# Altium footprint library WR-TBL_Rising Cage Clamp_10.16mm.PcbLib: 81 footprints (part 3 of 6)
Each footprint in its own frame and in the unit in brackets; x right, y up, seen from the top. Pads: shape width x height; smd on the part's side, far side on the other; paste and mask are expansions set on the pad; w line width, h text height; cw(c..) or ccw(c..) is an arc to the next point about the centre after c.
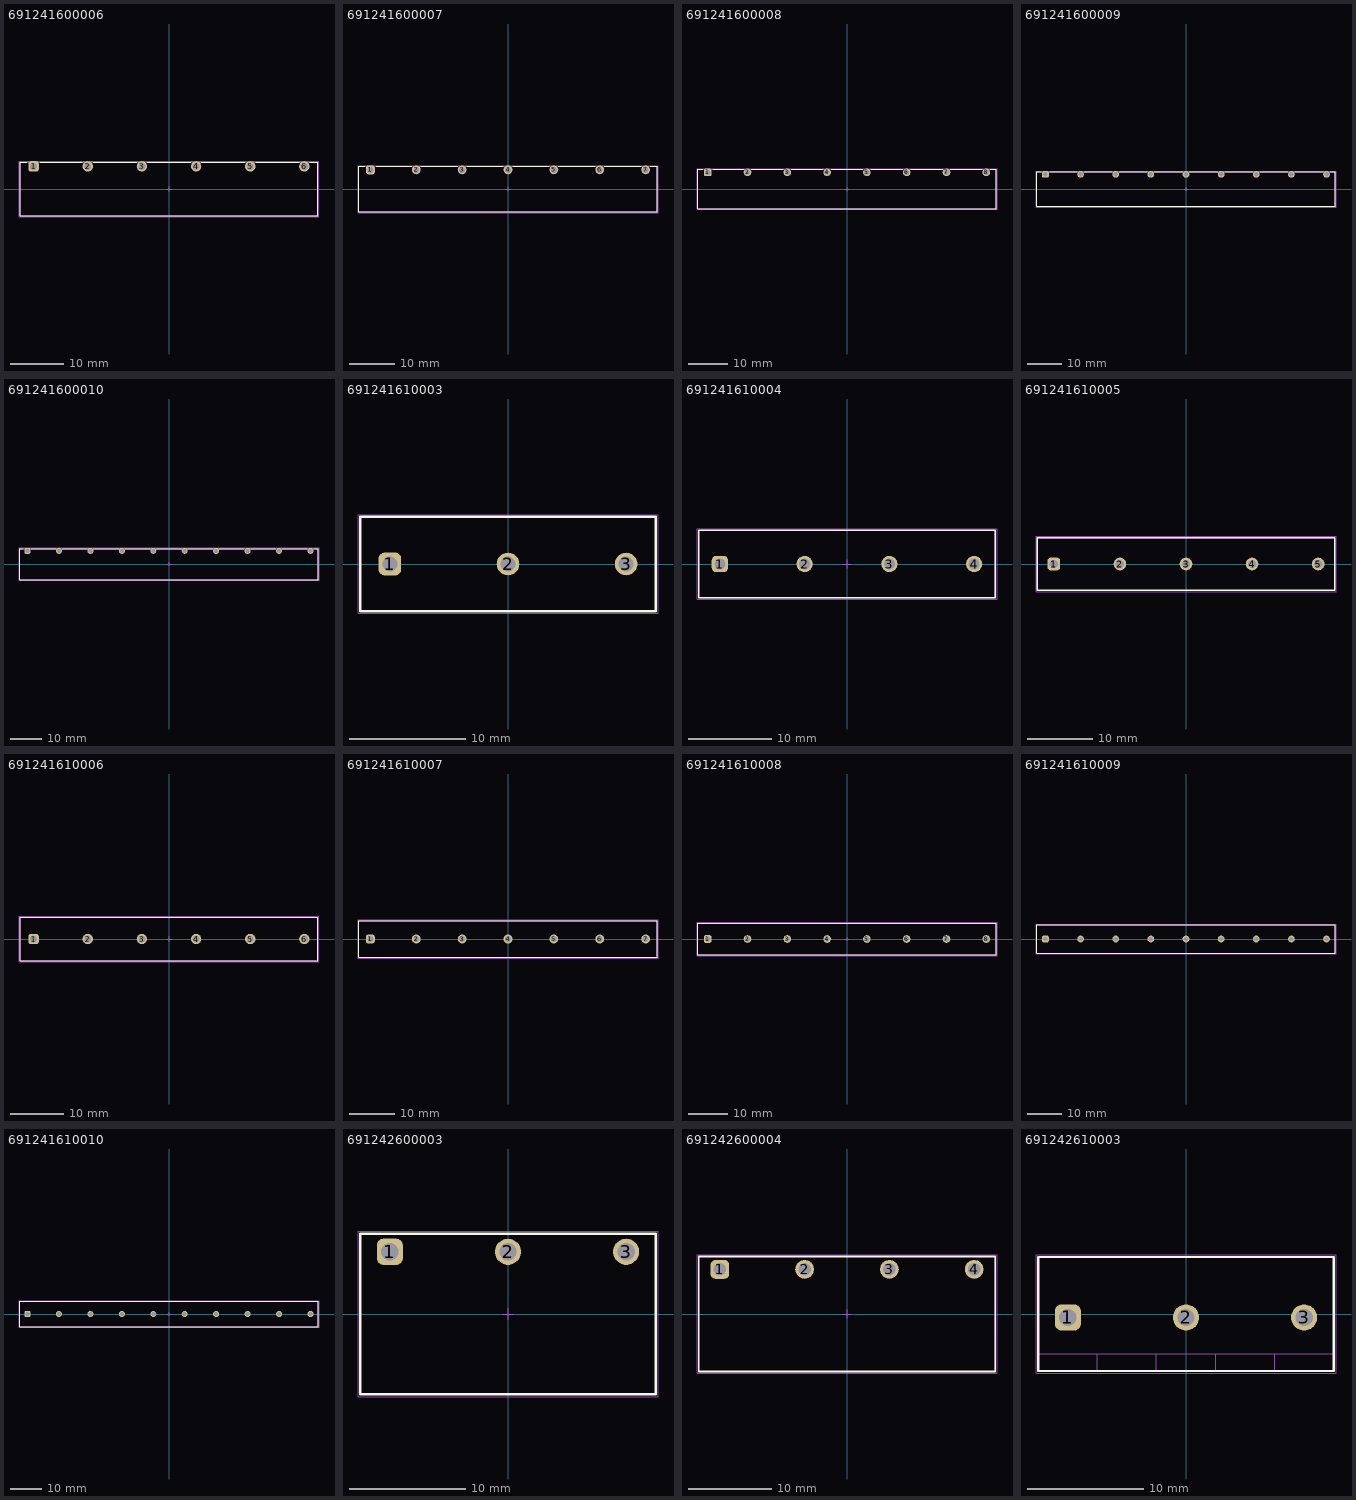
[diagram p2: the footprints below, top view; thin cyan lines are the x and y axes]

## 691241600006 [mm] "Vertical Cable Entry with Rising Cage Clamp, pitch 10.16mm, 06p"
height 8.1
pads (6):
  rrect50% 1.95x1.95 hole 1.3: 1(-25.4,4.25)
  round 1.95 hole 1.3: 2(-15.24,4.25) 3(-5.08,4.25) 4(5.08,4.25) 5(15.24,4.25) 6(25.4,4.25)
Top Overlay:
  lines w0.2: -26.69,5 -27.94,5 -27.94,-5 27.94,-5 27.94,5 26.44,5 ; -24.14,5 -16.24,5 ; -14.24,5 -6.09,5 ; -4.08,5 4.07,5 ; 6.08,5 14.23,5 ; 16.24,5 24.39,5
Top Assembly:
  lines w0.1: -27.94,-5 -27.94,5 27.94,5 27.94,-5 -27.94,-5
Top Designator:
  text ".Designator" at -3.647,-0.357 h1
Top 3D Body:
  lines w0.1: -27.94,-5 27.94,-5 27.94,5 -27.94,5 -27.94,-5
Top Courtyard:
  lines w0.05: -28.14,-5.2 -28.14,5.2 28.14,5.2 28.14,-5.2 -28.14,-5.2
Top Component Center:
  lines w0.1: -0.5,0 0.5,0 ; 0,-0.5 0,0.5
3D body "691241600006.stp": height 8.2, standoff -3.4, extent -27.94,-5 27.94,5

## 691241600007 [mm] "Vertical Cable Entry with Rising Cage Clamp, pitch 10.16mm, 07p"
height 8.1
pads (7):
  rrect50% 1.95x1.95 hole 1.3: 1(-30.48,4.25)
  round 1.95 hole 1.3: 2(-20.32,4.25) 3(-10.16,4.25) 4(0,4.25) 5(10.16,4.25) 6(20.32,4.25) 7(30.48,4.25)
Top Overlay:
  lines w0.2: -31.77,5 -33.02,5 -33.02,-5 33.02,-5 33.02,5 31.52,5 ; -29.22,5 -21.32,5 ; -19.32,5 -11.17,5 ; -9.16,5 -1.01,5 ; 1,5 9.15,5 ; 11.16,5 19.31,5 ; 21.32,5 29.47,5
Top Assembly:
  lines w0.1: -33.02,-5 -33.02,5 33.02,5 33.02,-5 -33.02,-5
Top Designator:
  text ".Designator" at -3.647,-0.357 h1
Top 3D Body:
  lines w0.1: -33.02,-5 33.02,-5 33.02,5 -33.02,5 -33.02,-5
Top Courtyard:
  lines w0.05: -33.22,-5.2 -33.22,5.2 33.22,5.2 33.22,-5.2 -33.22,-5.2
Top Component Center:
  lines w0.1: -0.5,0 0.5,0 ; 0,-0.5 0,0.5
3D body "691241600007.stp": height 8.2, standoff -3.4, extent -33.02,-5 33.02,5

## 691241600008 [mm] "Vertical Cable Entry with Rising Cage Clamp, pitch 10.16mm, 08p"
height 8.1
pads (8):
  rrect50% 1.95x1.95 hole 1.3: 1(-35.56,4.25)
  round 1.95 hole 1.3: 2(-25.4,4.25) 3(-15.24,4.25) 4(-5.08,4.25) 5(5.08,4.25) 6(15.24,4.25) 7(25.4,4.25) 8(35.56,4.25)
Top Overlay:
  lines w0.2: -36.85,5 -38.1,5 -38.1,-5 38.1,-5 38.1,5 36.6,5 ; -34.3,5 -26.4,5 ; -24.4,5 -16.25,5 ; -14.24,5 -6.09,5 ; -4.08,5 4.07,5 ; 6.08,5 14.23,5 ; 16.24,5 24.39,5 ; 26.4,5 34.55,5
Top Assembly:
  lines w0.1: -38.1,-5 -38.1,5 38.1,5 38.1,-5 -38.1,-5
Top Designator:
  text ".Designator" at -3.647,-0.357 h1
Top 3D Body:
  lines w0.1: -38.1,-5 38.1,-5 38.1,5 -38.1,5 -38.1,-5
Top Courtyard:
  lines w0.05: -38.3,-5.2 -38.3,5.2 38.3,5.2 38.3,-5.2 -38.3,-5.2
Top Component Center:
  lines w0.1: -0.5,0 0.5,0 ; 0,-0.5 0,0.5
3D body "691241600008.stp": height 8.2, standoff -3.4, extent -38.1,-5 38.1,5

## 691241600009 [mm] "Vertical Cable Entry with Rising Cage Clamp, pitch 10.16mm, 09p"
height 8.1
pads (9):
  rrect50% 1.95x1.95 hole 1.3: 1(-40.64,4.25)
  round 1.95 hole 1.3: 2(-30.48,4.25) 3(-20.32,4.25) 4(-10.16,4.25) 5(0,4.25) 6(10.16,4.25) 7(20.32,4.25) 8(30.48,4.25) 9(40.64,4.25)
Top Overlay:
  lines w0.2: -41.93,5 -43.18,5 -43.18,-5 43.18,-5 43.18,5 41.68,5 ; -39.38,5 -31.48,5 ; -29.48,5 -21.33,5 ; -19.32,5 -11.17,5 ; -9.16,5 -1.01,5 ; 1,5 9.15,5 ; 11.16,5 19.31,5 ; 21.32,5 29.47,5 ; 31.48,5 39.63,5
Top Assembly:
  lines w0.1: -43.18,-5 -43.18,5 43.18,5 43.18,-5 -43.18,-5
Top Designator:
  text ".Designator" at -3.647,-0.357 h1
Top 3D Body:
  lines w0.1: -43.18,-5 43.18,-5 43.18,5 -43.18,5 -43.18,-5
Top Courtyard:
  lines w0.05: -43.38,-5.2 -43.38,5.2 43.38,5.2 43.38,-5.2 -43.38,-5.2
Top Component Center:
  lines w0.1: -0.5,0 0.5,0 ; 0,-0.5 0,0.5
3D body "691241600009.stp": height 8.2, standoff -3.4, extent -43.18,-5 43.18,5

## 691241600010 [mm] "Vertical Cable Entry with Rising Cage Clamp, pitch 10.16mm, 10p"
height 8.1
pads (10):
  rrect50% 1.95x1.95 hole 1.3: 1(-45.72,4.25)
  round 1.95 hole 1.3: 2(-35.56,4.25) 3(-25.4,4.25) 4(-15.24,4.25) 5(-5.08,4.25) 6(5.08,4.25) 7(15.24,4.25) 8(25.4,4.25) 9(35.56,4.25) 10(45.72,4.25)
Top Overlay:
  lines w0.2: -47.01,5 -48.26,5 -48.26,-5 48.26,-5 48.26,5 46.76,5 ; -44.46,5 -36.56,5 ; -34.56,5 -26.41,5 ; -24.4,5 -16.25,5 ; -14.24,5 -6.09,5 ; -4.08,5 4.07,5 ; 6.08,5 14.23,5 ; 16.24,5 24.39,5 ; 26.4,5 34.55,5 ; 36.56,5 44.71,5
Top Assembly:
  lines w0.1: -48.26,-5 48.26,-5 48.26,5 -48.26,5 -48.26,-5
Top Designator:
  text ".Designator" at -3.647,-0.357 h1
Top 3D Body:
  lines w0.1: -48.26,-5 -48.26,5 48.26,5 48.26,-5 -48.26,-5
Top Courtyard:
  lines w0.05: -48.46,-5.2 48.46,-5.2 48.46,5.2 -48.46,5.2 -48.46,-5.2
Top Component Center:
  lines w0.1: -0.5,0 0.5,0 ; 0,-0.5 0,0.5
3D body "691241600010.stp": height 8.2, standoff -3.4, extent -48.26,-5 48.26,5

## 691241610003 [mm] "10.16mm Horizontal Cable Entry with Rising Cage Clamp, 03p"
height 10
pads (3):
  rrect50% 1.95x1.95 hole 1.3: 1(-10.16,0)
  round 1.95 hole 1.3: 2(0,0) 3(10.16,0)
Top Overlay:
  lines w0.2: -12.7,-4.05 -12.7,4.05 12.7,4.05 12.7,-4.05 -12.7,-4.05
Top Assembly:
  lines w0.1: -12.7,-4.05 12.7,-4.05 12.7,4.05 -12.7,4.05 -12.7,-4.05
Top Designator:
  text ".Designator" at -3.647,-0.357 h1
Top 3D Body:
  lines w0.1: -12.7,-4.05 -12.7,4.05 12.7,4.05 12.7,-4.05 -12.7,-4.05
Top Courtyard:
  lines w0.05: -12.9,-4.25 12.9,-4.25 12.9,4.25 -12.9,4.25 -12.9,-4.25
Top Component Center:
  lines w0.1: -0.5,0 0.5,0 ; 0,-0.5 0,0.5
3D body "691241610003.stp": height 10.1, standoff -3.4, extent -12.7,-4.05 12.7,4.05

## 691241610004 [mm] "10.16mm Horizontal Cable Entry with Rising Cage Clamp, 04p"
height 10
pads (4):
  rrect50% 1.95x1.95 hole 1.3: 1(-15.24,0)
  round 1.95 hole 1.3: 2(-5.08,0) 3(5.08,0) 4(15.24,0)
Top Overlay:
  lines w0.2: -17.78,-4.05 -17.78,4.05 17.78,4.05 17.78,-4.05 -17.78,-4.05
Top Assembly:
  lines w0.1: -17.78,-4.05 17.78,-4.05 17.78,4.05 -17.78,4.05 -17.78,-4.05
Top Designator:
  text ".Designator" at -3.647,-0.357 h1
Top 3D Body:
  lines w0.1: -17.78,-4.05 -17.78,4.05 17.78,4.05 17.78,-4.05 -17.78,-4.05
Top Courtyard:
  lines w0.05: -17.98,-4.25 17.98,-4.25 17.98,4.25 -17.98,4.25 -17.98,-4.25
Top Component Center:
  lines w0.1: -0.5,0 0.5,0 ; 0,-0.5 0,0.5
3D body "691241610004.stp": height 10.1, standoff -3.4, extent -17.78,-4.05 17.78,4.05

## 691241610005 [mm] "10.16mm Horizontal Cable Entry with Rising Cage Clamp, 05p"
height 10
pads (5):
  rrect50% 1.95x1.95 hole 1.3: 1(-20.32,0)
  round 1.95 hole 1.3: 2(-10.16,0) 3(0,0) 4(10.16,0) 5(20.32,0)
Top Overlay:
  lines w0.2: -22.86,-4.05 -22.86,4.05 22.86,4.05 22.86,-4.05 -22.86,-4.05
Top Assembly:
  lines w0.1: -22.86,-4.05 22.86,-4.05 22.86,4.05 -22.86,4.05 -22.86,-4.05
Top Designator:
  text ".Designator" at -3.647,-0.357 h1
Top 3D Body:
  lines w0.1: -22.86,-4.05 -22.86,4.05 22.86,4.05 22.86,-4.05 -22.86,-4.05
Top Courtyard:
  lines w0.05: -23.06,-4.25 23.06,-4.25 23.06,4.25 -23.06,4.25 -23.06,-4.25
Top Component Center:
  lines w0.1: -0.5,0 0.5,0 ; 0,-0.5 0,0.5
3D body "691241610005.stp": height 10.1, standoff -3.4, extent -22.86,-4.05 22.86,4.05

## 691241610006 [mm] "10.16mm Horizontal Cable Entry with Rising Cage Clamp, 06p"
height 10
pads (6):
  rrect50% 1.95x1.95 hole 1.3: 1(-25.4,0)
  round 1.95 hole 1.3: 2(-15.24,0) 3(-5.08,0) 4(5.08,0) 5(15.24,0) 6(25.4,0)
Top Overlay:
  lines w0.2: -27.94,-4.05 -27.94,4.05 27.94,4.05 27.94,-4.05 -27.94,-4.05
Top Assembly:
  lines w0.1: -27.94,-4.05 27.94,-4.05 27.94,4.05 -27.94,4.05 -27.94,-4.05
Top Designator:
  text ".Designator" at -3.647,-0.357 h1
Top 3D Body:
  lines w0.1: -27.94,-4.05 -27.94,4.05 27.94,4.05 27.94,-4.05 -27.94,-4.05
Top Courtyard:
  lines w0.05: -28.14,-4.25 28.14,-4.25 28.14,4.25 -28.14,4.25 -28.14,-4.25
Top Component Center:
  lines w0.1: -0.5,0 0.5,0 ; 0,-0.5 0,0.5
3D body "691241610006.stp": height 10.1, standoff -3.4, extent -27.94,-4.05 27.94,4.05

## 691241610007 [mm] "10.16mm Horizontal Cable Entry with Rising Cage Clamp, 07p"
height 10
pads (7):
  rrect50% 1.95x1.95 hole 1.3: 1(-30.48,0)
  round 1.95 hole 1.3: 2(-20.32,0) 3(-10.16,0) 4(0,0) 5(10.16,0) 6(20.32,0) 7(30.48,0)
Top Overlay:
  lines w0.2: -33.02,-4.05 -33.02,4.05 33.02,4.05 33.02,-4.05 -33.02,-4.05
Top Assembly:
  lines w0.1: -33.02,-4.05 33.02,-4.05 33.02,4.05 -33.02,4.05 -33.02,-4.05
Top Designator:
  text ".Designator" at -3.647,-0.357 h1
Top 3D Body:
  lines w0.1: -33.02,-4.05 -33.02,4.05 33.02,4.05 33.02,-4.05 -33.02,-4.05
Top Courtyard:
  lines w0.05: -33.22,-4.25 33.22,-4.25 33.22,4.25 -33.22,4.25 -33.22,-4.25
Top Component Center:
  lines w0.1: -0.5,0 0.5,0 ; 0,-0.5 0,0.5
3D body "691241610007.stp": height 10.1, standoff -3.4, extent -33.02,-4.05 33.02,4.05

## 691241610008 [mm] "10.16mm Horizontal Cable Entry with Rising Cage Clamp, 08p"
height 10
pads (8):
  rrect50% 1.95x1.95 hole 1.3: 1(-35.56,0)
  round 1.95 hole 1.3: 2(-25.4,0) 3(-15.24,0) 4(-5.08,0) 5(5.08,0) 6(15.24,0) 7(25.4,0) 8(35.56,0)
Top Overlay:
  lines w0.2: -38.1,-4.05 38.1,-4.05 38.1,4.05 -38.1,4.05 -38.1,-4.05
Top Assembly:
  lines w0.1: -38.1,-4.05 -38.1,4.05 38.1,4.05 38.1,-4.05 -38.1,-4.05
Top Designator:
  text ".Designator" at -3.647,-0.357 h1
Top 3D Body:
  lines w0.1: -38.1,-4.05 38.1,-4.05 38.1,4.05 -38.1,4.05 -38.1,-4.05
Top Courtyard:
  lines w0.05: -38.3,-4.25 -38.3,4.25 38.3,4.25 38.3,-4.25 -38.3,-4.25
Top Component Center:
  lines w0.1: -0.5,0 0.5,0 ; 0,-0.5 0,0.5
3D body "691241610008.stp": height 10.1, standoff -3.4, extent -38.1,-4.05 38.1,4.05

## 691241610009 [mm] "10.16mm Horizontal Cable Entry with Rising Cage Clamp, 09p"
height 10
pads (9):
  rrect50% 1.95x1.95 hole 1.3: 1(-40.64,0)
  round 1.95 hole 1.3: 2(-30.48,0) 3(-20.32,0) 4(-10.16,0) 5(0,0) 6(10.16,0) 7(20.32,0) 8(30.48,0) 9(40.64,0)
Top Overlay:
  lines w0.2: -43.18,-4.05 -43.18,4.05 43.18,4.05 43.18,-4.05 -43.18,-4.05
Top Assembly:
  lines w0.1: -43.18,-4.05 43.18,-4.05 43.18,4.05 -43.18,4.05 -43.18,-4.05
Top Designator:
  text ".Designator" at -3.647,-0.357 h1
Top 3D Body:
  lines w0.1: -43.18,-4.05 -43.18,4.05 43.18,4.05 43.18,-4.05 -43.18,-4.05
Top Courtyard:
  lines w0.05: -43.38,-4.25 43.38,-4.25 43.38,4.25 -43.38,4.25 -43.38,-4.25
Top Component Center:
  lines w0.1: -0.5,0 0.5,0 ; 0,-0.5 0,0.5
3D body "691241610009.stp": height 10.1, standoff -3.4, extent -43.18,-4.05 43.18,4.05

## 691241610010 [mm] "10.16mm Horizontal Cable Entry with Rising Cage Clamp, 10p"
height 10
pads (10):
  rrect50% 1.95x1.95 hole 1.3: 1(-45.72,0)
  round 1.95 hole 1.3: 2(-35.56,0) 3(-25.4,0) 4(-15.24,0) 5(-5.08,0) 6(5.08,0) 7(15.24,0) 8(25.4,0) 9(35.56,0) 10(45.72,0)
Top Overlay:
  lines w0.2: -48.26,-4.05 -48.26,4.05 48.26,4.05 48.26,-4.05 -48.26,-4.05
Top Assembly:
  lines w0.1: -48.26,-4.05 48.26,-4.05 48.26,4.05 -48.26,4.05 -48.26,-4.05
Top Designator:
  text ".Designator" at -3.647,-0.357 h1
Top 3D Body:
  lines w0.1: -48.26,-4.05 -48.26,4.05 48.26,4.05 48.26,-4.05 -48.26,-4.05
Top Courtyard:
  lines w0.05: -48.46,-4.25 48.46,-4.25 48.46,4.25 -48.46,4.25 -48.46,-4.25
Top Component Center:
  lines w0.1: -0.5,0 0.5,0 ; 0,-0.5 0,0.5
3D body "691241610010.stp": height 10.1, standoff -3.4, extent -48.26,-4.05 48.26,4.05

## 691242600003 [mm] "Serie 2426-10.16mm Vertical Cable Entry with Rising Cage Clamp, 3 pins"
height 9
pads (3):
  rrect50% 2.25x2.25 hole 1.5: 1(-10.16,5.35)
  round 2.25 hole 1.5: 2(0,5.35) 3(10.16,5.35)
Top Overlay:
  lines w0.2: -12.7,-6.9 -12.7,6.9 12.7,6.9 12.7,-6.9 -12.7,-6.9
Top Assembly:
  lines w0.1: -12.7,-6.9 12.7,-6.9 12.7,6.9 -12.7,6.9 -12.7,-6.9
Top Designator:
  text ".Designator" at -3.647,-0.357 h1
Top 3D Body:
  lines w0.1: -12.7,-6.9 -12.7,6.9 12.7,6.9 12.7,-6.9 -12.7,-6.9
Top Courtyard:
  lines w0.05: -12.9,-7.1 12.9,-7.1 12.9,7.1 -12.9,7.1 -12.9,-7.1
Top Component Center:
  lines w0.1: -0.5,0 0.5,0 ; 0,-0.5 0,0.5
3D body "691242600003.stp": height 9.85, standoff -3.45, extent -12.7,-6.9 12.7,6.9

## 691242600004 [mm] "Serie 2426-10.16mm Vertical Cable Entry with Rising Cage Clamp, 4 pins"
height 9
pads (4):
  rrect50% 2.25x2.25 hole 1.5: 1(-15.24,5.35)
  round 2.25 hole 1.5: 2(-5.08,5.35) 3(5.08,5.35) 4(15.24,5.35)
Top Overlay:
  lines w0.2: -17.78,-6.9 17.78,-6.9 17.78,6.9 -17.78,6.9 -17.78,-6.9
Top Assembly:
  lines w0.1: -17.78,-6.9 -17.78,6.9 17.78,6.9 17.78,-6.9 -17.78,-6.9
Top Designator:
  text ".Designator" at -3.647,-0.357 h1
Top 3D Body:
  lines w0.1: -17.78,-6.9 17.78,-6.9 17.78,6.9 -17.78,6.9 -17.78,-6.9
Top Courtyard:
  lines w0.05: -17.98,-7.1 -17.98,7.1 17.98,7.1 17.98,-7.1 -17.98,-7.1
Top Component Center:
  lines w0.1: -0.5,0 0.5,0 ; 0,-0.5 0,0.5
3D body "691242600004.stp": height 9.85, standoff -3.45, extent -17.78,-6.9 17.78,6.9

## 691242610003 [mm] "Serie 2426 - 10.16 mm _ 3 pins"
height 13.8
pads (3):
  rrect50% 2.25x2.25 hole 1.5: 1(-10.16,-0.3)
  round 2.25 hole 1.5: 2(0,-0.3) 3(10.16,-0.3)
Top Overlay:
  lines w0.2: -12.7,-4.9 12.7,-4.9 12.7,4.9 -12.7,4.9 -12.7,-4.9
Top Assembly:
  lines w0.1: -12.7,-3.4 12.7,-3.4 ; -7.62,-4.9 -7.62,-3.4 ; -2.54,-4.9 -2.54,-3.4 ; 2.54,-4.9 2.54,-3.4 ; 7.62,-4.9 7.62,-3.4 ; -12.7,-4.9 -12.7,4.9 12.7,4.9 12.7,-4.9 -12.7,-4.9
Top Designator:
  text ".Designator" at -3.647,-0.357 h1
Top 3D Body:
  lines w0.1: -12.7,-3.4 12.7,-3.4 ; -7.62,-4.9 -7.62,-3.4 ; -2.54,-4.9 -2.54,-3.4 ; 2.54,-4.9 2.54,-3.4 ; 7.62,-4.9 7.62,-3.4 ; -12.7,-4.9 12.7,-4.9 12.7,4.9 -12.7,4.9 -12.7,-4.9
Top Courtyard:
  lines w0.05: -12.9,-5.1 12.9,-5.1 12.9,5.1 -12.9,5.1 -12.9,-5.1
Top Component Center:
  lines w0.1: -0.5,0 0.5,0 ; 0,-0.5 0,0.5
3D body "691242610003.stp": height 13.9, standoff -3.4, extent -12.7,-4.9 12.7,4.9